# Altium schematic symbol library RAK3172.SCHLIB: 2 symbols
Pins are listed as number, name and electrical type; pins without a type are passive.

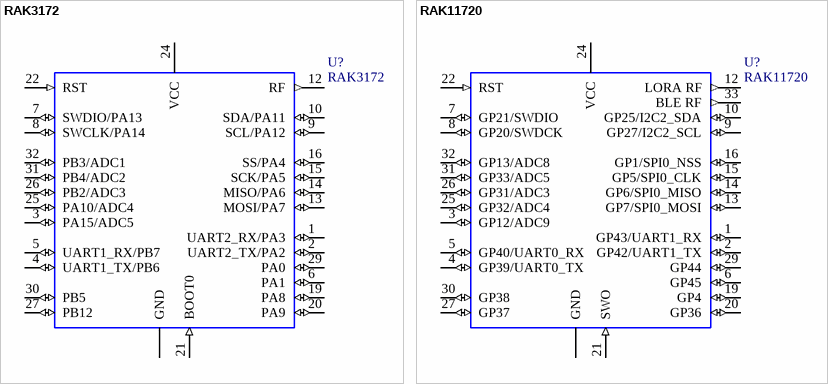
[diagram p0: symbols RAK3172 to RAK11720]

## RAK3172
designator U?
RAK3172 is a low-power long-range transceiver module based on the STM32WLE5CC chip. It provides an easy-to-use, small-size, low-power solution for long range wireless data applications; MF: Shenzhen RAKwireless Technology Co.,Ltd.; MP: RAK3172; Value: *; Check_prices: https://www.snapeda.com/parts/RAK3172/Shenzhen+RAKwireless+Technology+Co.%252CLtd./view-part/?ref=eda; Package: Package; Price: None; Availability: Not in stock; SnapEDA_Link: https://www.snapeda.com/parts/RAK3172/Shenzhen+RAKwireless+Technology+Co.%252CLtd./view-part/?ref=snap
footprint RAK3172
pins: 1 UART2_RX/PA3 (io), 2 UART2_TX/PA2 (io), 3 PA15/ADC5 (io), 4 UART1_TX/PB6 (io), 5 UART1_RX/PB7 (io), 6 PA1 (io), 7 SWDIO/PA13 (io), 8 SWCLK/PA14 (io), 9 SCL/PA12 (io), 10 SDA/PA11 (io), 11 GND (power), 12 RF (out), 13 MOSI/PA7 (io), 14 MISO/PA6 (io), 15 SCK/PA5 (io), 16 SS/PA4 (io), 17 GND (power), 18 GND (power), 19 PA8 (io), 20 PA9 (io), 21 BOOT0 (in), 22 RST (in), 23 GND (power), 24 VCC (power), 25 PA10/ADC4 (io), 26 PB2/ADC3 (io), 27 PB12 (io), 28 GND (power), 29 PA0 (io), 30 PB5 (io), 31 PB4/ADC2 (io), 32 PB3/ADC1 (io)

## RAK11720
designator U?
RAK11720 Ambiq Apollo3 Blue SX1262 LoRa Bluetooth Module for LoRaWAN; MP: RAK3172; MF: Shenzhen RAKwireless Technology Co.,Ltd.; Value: *; Check_prices: https://www.snapeda.com/parts/RAK3172/Shenzhen+RAKwireless+Technology+Co.%252CLtd./view-part/?ref=eda; Package: Package; Price: None; Availability: Not in stock; SnapEDA_Link: https://www.snapeda.com/parts/RAK3172/Shenzhen+RAKwireless+Technology+Co.%252CLtd./view-part/?ref=snap
footprint RAK11720
pins: 1 GP43/UART1_RX (io), 2 GP42/UART1_TX (io), 3 GP12/ADC9 (io), 4 GP39/UART0_TX (io), 5 GP40/UART0_RX (io), 6 GP45 (io), 7 GP21/SWDIO (io), 8 GP20/SWDCK (io), 9 GP27/I2C2_SCL (io), 10 GP25/I2C2_SDA (io), 11 GND (power), 12 LORA RF (out), 13 GP7/SPI0_MOSI (io), 14 GP6/SPI0_MISO (io), 15 GP5/SPI0_CLK (io), 16 GP1/SPI0_NSS (io), 17 GND (power), 18 GND (power), 19 GP4 (io), 20 GP36 (io), 21 SWO (in), 22 RST (in), 23 GND (power), 24 VCC (power), 25 GP32/ADC4 (io), 26 GP31/ADC3 (io), 27 GP37 (io), 28 GND (power), 29 GP44 (io), 30 GP38 (io), 31 GP33/ADC5 (io), 32 GP13/ADC8 (io), 33 BLE RF (out), 34 GND (power)